# EAGLE library part LMR33620 (library bschulz)
LMR33620 - Synchronous Step Down Converter (Buck) Characteristics: Vin: 3.8V ~ 36V Vout: 1V ~ 24V Output Current: 2A Operating Temperature: -40°C to 125°C Digikey: 296-51357-1-ND <https://www.digikey.com/en/products/detail/texas-instruments/LMR33620CDDAR/8554846>
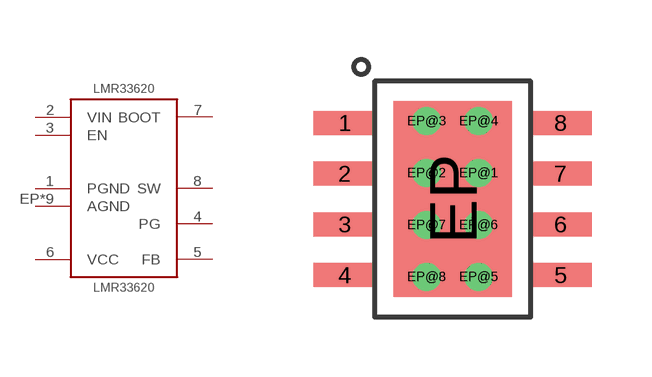
[diagram p142: symbol with the pads of DDS0008J; footprint DDS0008J]

Designator prefix U

## LMR33620HSOIC (DIGIKEY: 296-51357-1-ND; MF: TI; MPN: LMR33620CDDAR)  [DDS0008J]
1  PGND  pwr
2  VIN  pwr
3  EN  in
4  PG  oc
5  FB  in
6  VCC  pwr
7  BOOT  pwr
8  SW  pwr
EP  AGND  pwr
EP@1  AGND  pwr
EP@2  AGND  pwr
EP@3  AGND  pwr
EP@4  AGND  pwr
EP@5  AGND  pwr
EP@6  AGND  pwr
EP@7  AGND  pwr
EP@8  AGND  pwr

## Footprint DDS0008J (pad centres in mm)
SOIC-8 with PowerPAD Datasheet <https://www.ti.com/lit/ds/symlink/lmr33620.pdf?HQS=dis-dk-null-digikeymode-dsf-pf-null-wwe&ts=1618398901548>
smd 1.55 x 0.6: 1 -2.7,1.905; 2 -2.7,0.635; 3 -2.7,-0.635; 4 -2.7,-1.905; 5 2.7,-1.905; 6 2.7,-0.635; 7 2.7,0.635; 8 2.7,1.905
smd 2.95 x 4.9: EP 0,0
drill 0.2: EP@1 0.65,0.65; EP@2 -0.65,0.65; EP@3 -0.65,1.95; EP@4 0.65,1.95; EP@5 0.65,-1.95; EP@6 0.65,-0.65; EP@7 -0.65,-0.65; EP@8 -0.65,-1.95